# Altium footprint library CRY1.PcbLib: 1 footprints
Each footprint in its own frame and in the unit in brackets; x right, y up, seen from the top. Pads: shape width x height; smd on the part's side, far side on the other; paste and mask are expansions set on the pad; w line width, h text height; cw(c..) or ccw(c..) is an arc to the next point about the centre after c.
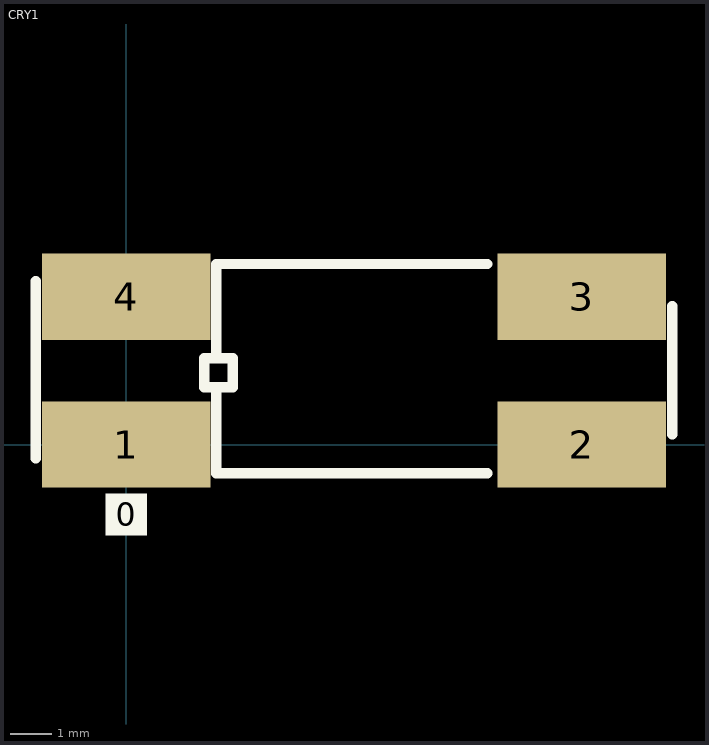
[diagram p0: the footprint, top view; thin cyan lines are the x and y axes]

## CRY1 [mm] "Crystal"
pads (5):
  rect 1.016x1.016 on Top Overlay: 0(0,-1.702)
  rect 4.1x2.1 smd: 1(0,0) 2(11.1,0) 3(11.1,3.6) 4(0,3.6)
TopOverlay:
  lines w0.254: -2.2,-0.339 -2.2,3.979 ; 2.2,1.4 2.2,-0.7 8.8,-0.7 ; 2.2,2.2 2.2,4.4 8.8,4.4 ; 13.3,0.246 13.3,3.37 ; 1.9,1.4 1.9,2.1 2.6,2.1 2.6,1.4 1.9,1.4
Mechanical4:
  text ".181" at 0,0 h0.03
3D body: height 4.62, standoff 0, extent -0.686,-0.686 11.76,4.394